# Altium footprint library mh.PcbLib: 25 footprints (part 1 of 2)
Each footprint in its own frame and in the unit in brackets; x right, y up, seen from the top. Pads: shape width x height; smd on the part's side, far side on the other; paste and mask are expansions set on the pad; w line width, h text height; cw(c..) or ccw(c..) is an arc to the next point about the centre after c.
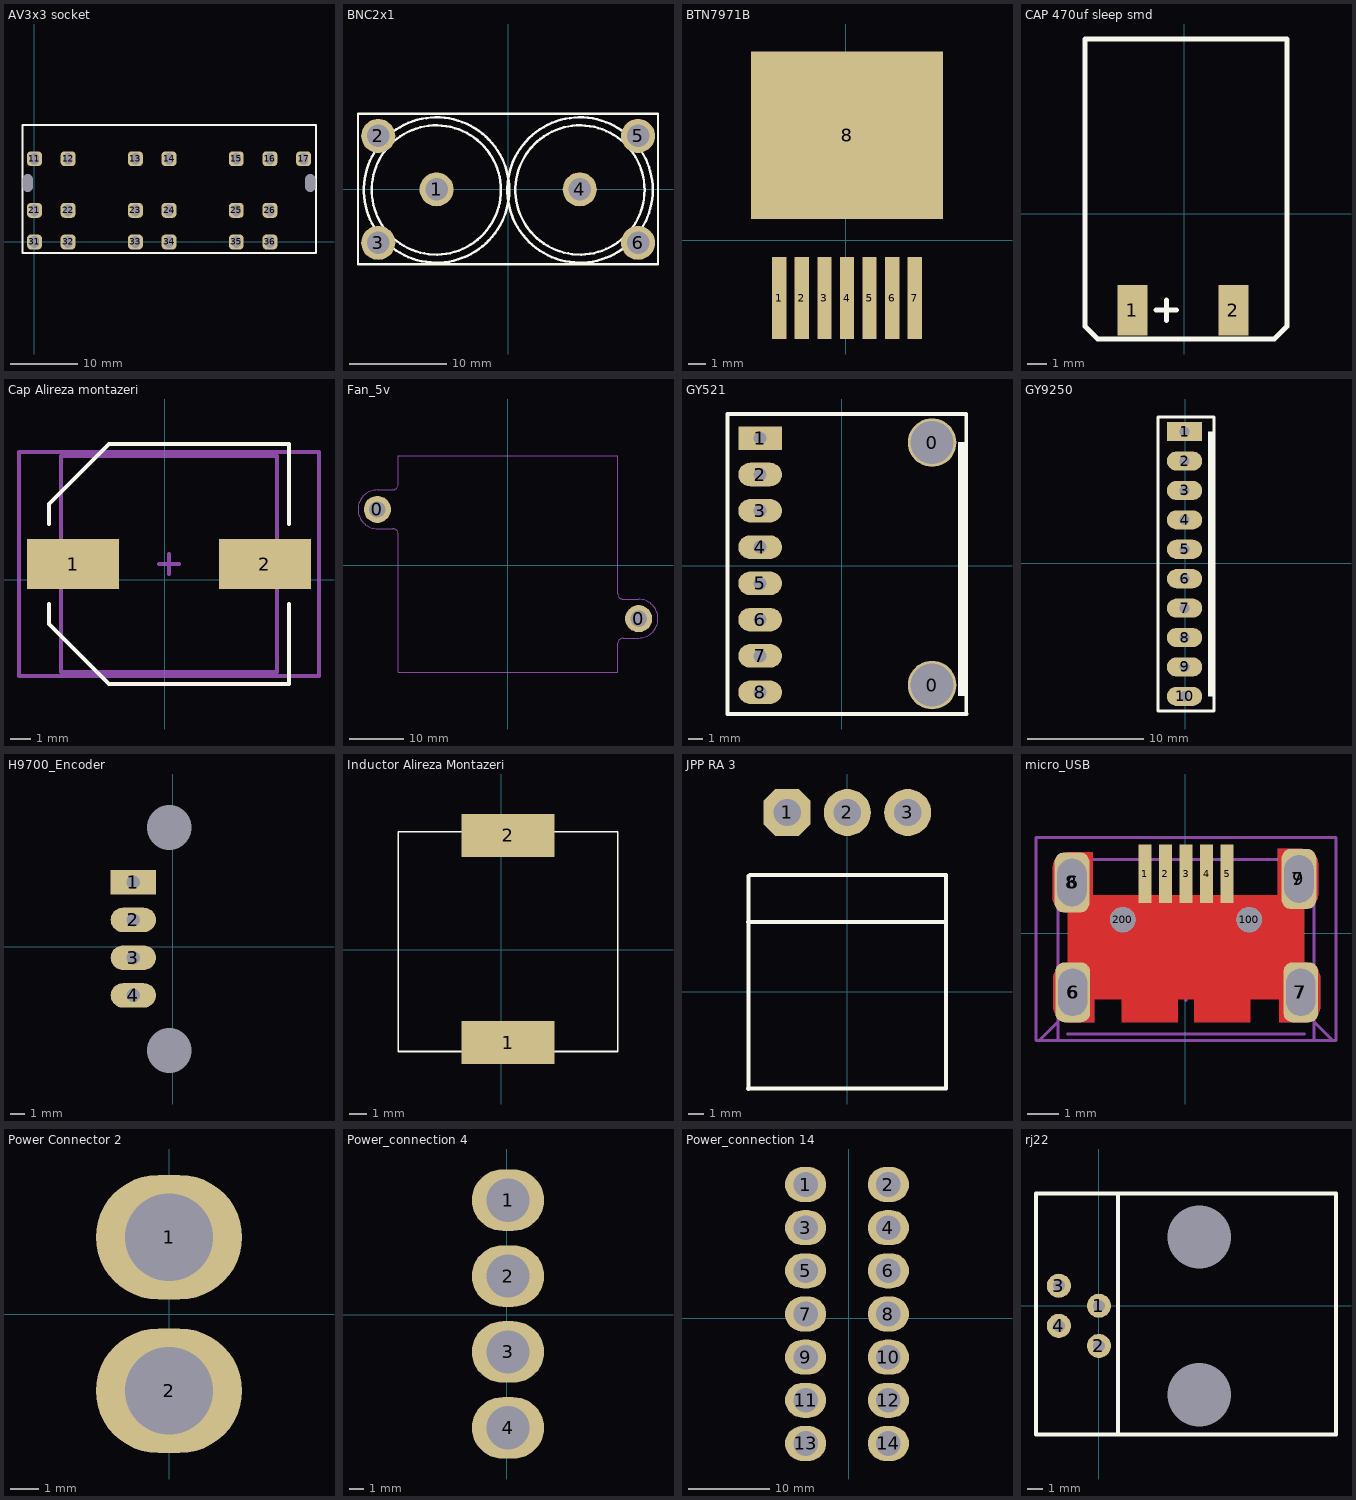
[diagram p0: the footprints below, top view; thin cyan lines are the x and y axes]

## AV3x3 socket [mm]
pads (21):
  round 0 hole 1.5 slot 2.6 at 90 deg: 0(-1,8.763) 0(40.992,8.763)
  rrect50% 2.2x2.2 hole 1.3 slot 1.7 at 90 deg: 11(0,12.38) 12(5,12.38) 13(15,12.38) 14(20,12.38) 15(30,12.38) 16(35,12.38) 17(40,12.38) 21(0,4.7) 22(5,4.7) 23(15,4.7) 24(20,4.7) 25(30,4.7) 26(35,4.7) 31(0,0) 32(5,0) 33(15,0) 34(20,0) 35(30,0) 36(35,0)
Top Overlay:
  lines w0.254: -1.778,-1.626 -1.778,17.374 41.859,17.374 41.859,-1.626 -1.778,-1.626

## BNC2x1 [mm]
pads (6):
  round 3.5 hole 2.3: 1(-7.386,-0.037) 2(-13.386,5.463) 3(-13.386,-5.537) 4(7.343,-0.037) 5(13.343,5.463) 6(13.343,-5.537)
Top Overlay:
  circle w0.254: c-7.391,-0.102 r7.479
  circle w0.254: c7.366,-0.102 r7.479
  circle w0.254: c-7.417,-0.102 r6.646
  circle w0.254: c7.366,-0.102 r6.646
  lines w0.254: -15.469,-7.722 -15.469,7.722 15.392,7.722 15.392,-7.722 -15.469,-7.722

## BTN7971B [mm]
pads (8):
  rect 0.8x4.6 smd: 1(-3.734,-3.251) 2(-2.464,-3.251) 3(-1.194,-3.251) 4(0.076,-3.251) 5(1.346,-3.251) 6(2.616,-3.251) 7(3.886,-3.251)
  rect 10.8x9.4 smd: 8(0.076,5.899)

## CAP 470uf sleep smd [mil]
pads (2):
  rect 60x100 smd: 1(-103,-191) 2(97,-191)
Top Overlay:
  lines w10: -56,-191 -16,-191 ; -36,-211 -36,-171 ; -197,-223 -197,346 203,346 203,-223 178,-248 -172,-248 -197,-223

## Cap Alireza montazeri [mm]
pads (2):
  rect 4.6x2.5 smd: 1(-4.592,0.797) 2(5.008,0.797)
Top Overlay:
  lines w0.2: -5.792,-1.203 -5.792,-2.203 -2.792,-5.203 6.208,-5.203 6.208,-1.203 ; -5.792,2.797 -5.792,3.797 -2.792,6.797 6.208,6.797 6.208,2.797
Mechanical 13:
  lines w0.2: -5.192,-4.603 5.608,-4.603 5.608,6.197 -5.192,6.197 -5.192,-4.603
Mechanical 15:
  lines w0.2: -0.292,0.797 0.708,0.797 ; 0.208,0.297 0.208,1.297 ; -7.292,-4.803 -7.292,6.397 7.708,6.397 7.708,-4.803 -7.292,-4.803
3D body: height 1.5, standoff 0.1, extent -5.192,-4.603 5.608,6.197
3D body: height 6.9, standoff 1.4, extent -5,-4.442 5.459,6.037

## Fan_5v [mm]
height 10
pads (2):
  round 5 hole 3: 0(-24.003,10.338) 0(24.155,-9.804)
Mechanical 1:
  circle w0.178: c24.148,-9.803 r1.6
  circle w0.178: c-24.002,10.347 r1.6
  lines w0.178: -24.002,6.772 cw(c-24.002,10.347) -24.002,13.922 -21.177,13.922 ccw(c-21.177,14.922) -20.177,14.922 -20.177,20.272 20.323,20.272 20.323,-5.228 ccw(c21.323,-5.228) 21.323,-6.228 24.148,-6.228 cw(c24.148,-9.803) 24.148,-13.378 21.323,-13.378 ccw(c21.323,-14.378) 20.323,-14.378 20.323,-19.728 -20.177,-19.728 -20.177,5.772 ccw(c-21.177,5.772) -21.177,6.772 -24.002,6.772

## GY521 [mil]
pads (10):
  round 133.86 hole 118.11: 0(248.99,-329.26) 0(248.99,339.03)
  rect 120x65 hole 35.43: 1(-225,351)
  oval 120x65 hole 35.43: 2(-225,251) 3(-225,151) 4(-225,51) 5(-225,-49) 6(-225,-149) 7(-225,-249) 8(-225,-349)
Top Overlay:
  circle w10: c-225,351 r25
  circle w10: c-225,251 r25
  circle w10: c-225,151 r25
  circle w10: c-225,51 r25
  circle w10: c-225,-49 r25
  circle w10: c-225,-149 r25
  circle w10: c-225,-249 r25
  circle w10: c-225,-349 r25
  rectangle: 320,-360 340,340
  lines w10: -315,414 -315,-409 344,-409 ; -315,417.77 343.48,417.77 343.48,-409
3D body: height 157.48, standoff 78.74, extent -312,-413 339,417

## GY9250 [mil]
pads (10):
  rect 120x65 hole 35.43: 1(-3,447)
  oval 120x65 hole 35.43: 2(-3,347) 3(-3,247) 4(-3,147) 5(-3,47) 6(-3,-53) 7(-3,-153) 8(-3,-253) 9(-3,-353) 10(-3,-453)
Top Overlay:
  circle w10: c-3,347 r25
  circle w10: c-3,247 r25
  circle w10: c-3,147 r25
  circle w10: c-3,47 r25
  circle w10: c-3,-53 r25
  circle w10: c-3,-153 r25
  circle w10: c-3,-253 r25
  circle w10: c-3,-353 r25
  circle w10: c-3,-453 r25
  circle w10: c-3,447 r25
  rectangle: 77,-453 97,447
  lines w10: -93,-503 97,-503 97,497 -93,497 -93,-503

## H9700_Encoder [mil]
pads (6):
  round 0 hole 118.11: 0(-10,-275) 0(-10,316)
  rect 120x65 hole 35.43: 1(-105,171)
  oval 120x65 hole 35.43: 2(-105,71) 3(-105,-29) 4(-105,-129)
Bottom Overlay:
  circle w10: c-10.5,-275 r59.05
  circle w10: c-10.5,316 r59.05
  lines w10: -223,-377 202,-377 ; -223,-372 -223,416 ; -223,418 202,418 ; 202,-376 202,412
  lines w30: -214,-181 -100,-181 ; -212,222 -98,222 10,222 ; 11,-181 190,-181 ; 13,222 192,222 ; -100,-181 8,-181 8,222 -100,222 -100,-181

## Inductor Alireza Montazeri [mm]
pads (2):
  rect 5.2x2.4 smd: 1(0.374,-5.205) 2(0.374,6.395)
Top Overlay:
  lines w0.1: -5.776,-5.705 -5.776,6.595 6.524,6.595 6.524,-5.705 -5.776,-5.705
3D body "User Library-WE-DD-L.STEP": height 6.9, standoff 0.2, extent -6.126,-5.756 6.375,6.744

## JPP RA 3 [mil]
pads (3):
  oct 120x120 hole 70: 1(-154,458)
  round 120 hole 70: 2(0,458) 3(154,458)
Top Overlay:
  lines w10: -254,-247 251,-247 ; -254,178 252,178 ; -253,-248 -253,296 ; -249,298 252,298 ; 252,-247 252,296

## micro_USB [mm]
pads (15):
  rect 0.4x1.85 smd: 1(-1.276,1.879) 2(-0.626,1.879) 3(0.024,1.879) 4(0.674,1.879) 5(1.324,1.879)
  rrect52% 1.1x1.9 hole 0.925 slot 1.5 at 90 deg paste+0: 6(-3.564,-1.871) 7(3.661,-1.871) 8(-3.587,1.606) 9(3.6,1.718)
  rrect52% 1.1x1.9 on Top Paste: 6(-3.549,1.606) 6(-3.526,-1.871) 7(3.563,1.718) 7(3.624,-1.871)
  round 0.8 hole 0.8: 100(2.024,0.429) 200(-1.976,0.429)
Top Layer:
  rectangle: 0.273,-2.821 2.073,-0.921
  rectangle: -2.026,-2.821 -0.226,-0.921
  region: 2.924,0.768 3.713,0.768 3.807,0.777 3.894,0.803 3.947,0.827 3.993,0.856 4.033,0.886 4.078,0.927 4.109,0.965 4.135,1.002 4.16,1.045 4.173,1.078 4.189,1.118 4.201,1.168 4.209,1.213 4.213,1.268 4.213,2.168 4.209,2.221 4.202,2.266 4.19,2.317 4.174,2.359 4.154,2.401 4.13,2.442 4.102,2.479 4.073,2.515 4.034,2.549 3.996,2.578 3.952,2.606 3.91,2.626 3.867,2.642 3.814,2.657 3.761,2.664 3.713,2.668 2.924,2.668
  region: -2.926,2.556 -3.699,2.556 -3.793,2.547 -3.88,2.521 -3.933,2.497 -3.979,2.468 -4.019,2.438 -4.064,2.397 -4.095,2.359 -4.121,2.322 -4.146,2.279 -4.159,2.246 -4.175,2.206 -4.187,2.156 -4.195,2.111 -4.199,2.056 -4.199,1.156 -4.195,1.103 -4.188,1.058 -4.176,1.007 -4.16,0.965 -4.14,0.923 -4.116,0.882 -4.088,0.845 -4.059,0.809 -4.02,0.775 -3.982,0.746 -3.938,0.718 -3.896,0.698 -3.853,0.682 -3.8,0.667 -3.747,0.66 -3.699,0.656 -2.926,0.656
  region: 2.974,-2.821 3.774,-2.821 3.868,-2.812 3.955,-2.786 4.008,-2.762 4.054,-2.733 4.094,-2.703 4.139,-2.662 4.17,-2.624 4.196,-2.587 4.221,-2.544 4.234,-2.511 4.25,-2.471 4.262,-2.421 4.27,-2.376 4.274,-2.321 4.274,-1.421 4.27,-1.368 4.263,-1.323 4.251,-1.272 4.235,-1.23 4.215,-1.188 4.191,-1.147 4.163,-1.11 4.134,-1.074 4.095,-1.04 4.057,-1.011 4.013,-0.983 3.971,-0.963 3.928,-0.947 3.875,-0.932 3.822,-0.925 3.774,-0.921 2.974,-0.921
  region: -2.876,-0.921 -3.676,-0.921 -3.77,-0.93 -3.857,-0.956 -3.91,-0.98 -3.956,-1.009 -3.996,-1.039 -4.041,-1.08 -4.072,-1.118 -4.098,-1.155 -4.123,-1.198 -4.136,-1.231 -4.152,-1.271 -4.164,-1.321 -4.172,-1.366 -4.176,-1.421 -4.176,-2.321 -4.172,-2.374 -4.165,-2.419 -4.153,-2.47 -4.137,-2.512 -4.117,-2.554 -4.093,-2.595 -4.065,-2.632 -4.036,-2.668 -3.997,-2.702 -3.959,-2.731 -3.915,-2.759 -3.873,-2.779 -3.83,-2.795 -3.777,-2.81 -3.724,-2.817 -3.676,-2.821 -2.876,-2.821
  pour cut-out: -3.726,1.204 3.774,1.204 3.774,-2.096 -3.726,-2.096
Bottom Layer:
  region: 2.924,0.768 3.713,0.768 3.807,0.777 3.894,0.803 3.947,0.827 3.993,0.856 4.033,0.886 4.078,0.927 4.109,0.965 4.135,1.002 4.16,1.045 4.173,1.078 4.189,1.118 4.201,1.168 4.209,1.213 4.213,1.268 4.213,2.168 4.209,2.221 4.202,2.266 4.19,2.317 4.174,2.359 4.154,2.401 4.13,2.442 4.102,2.479 4.073,2.515 4.034,2.549 3.996,2.578 3.952,2.606 3.91,2.626 3.867,2.642 3.814,2.657 3.761,2.664 3.713,2.668 2.924,2.668
  region: -2.976,2.556 -3.699,2.556 -3.793,2.547 -3.88,2.521 -3.933,2.497 -3.979,2.468 -4.019,2.438 -4.064,2.397 -4.095,2.359 -4.121,2.322 -4.146,2.279 -4.159,2.246 -4.175,2.206 -4.187,2.156 -4.195,2.111 -4.199,2.056 -4.199,1.156 -4.195,1.103 -4.188,1.058 -4.176,1.007 -4.16,0.965 -4.14,0.923 -4.116,0.882 -4.088,0.845 -4.059,0.809 -4.02,0.775 -3.982,0.746 -3.938,0.718 -3.896,0.698 -3.853,0.682 -3.8,0.667 -3.747,0.66 -3.699,0.656 -2.976,0.656
  region: -2.876,-0.921 -3.676,-0.921 -3.77,-0.93 -3.857,-0.956 -3.91,-0.98 -3.956,-1.009 -3.996,-1.039 -4.041,-1.08 -4.072,-1.118 -4.098,-1.155 -4.123,-1.198 -4.136,-1.231 -4.152,-1.271 -4.164,-1.321 -4.172,-1.366 -4.176,-1.421 -4.176,-2.321 -4.172,-2.374 -4.165,-2.419 -4.153,-2.47 -4.137,-2.512 -4.117,-2.554 -4.093,-2.595 -4.065,-2.632 -4.036,-2.668 -3.997,-2.702 -3.959,-2.731 -3.915,-2.759 -3.873,-2.779 -3.83,-2.795 -3.777,-2.81 -3.724,-2.817 -3.676,-2.821 -2.876,-2.821
  region: 2.974,-2.821 3.774,-2.821 3.868,-2.812 3.955,-2.786 4.008,-2.762 4.054,-2.733 4.094,-2.703 4.139,-2.662 4.17,-2.624 4.196,-2.587 4.221,-2.544 4.234,-2.511 4.25,-2.471 4.262,-2.421 4.27,-2.376 4.274,-2.321 4.274,-1.421 4.27,-1.368 4.263,-1.323 4.251,-1.272 4.235,-1.23 4.215,-1.188 4.191,-1.147 4.163,-1.11 4.134,-1.074 4.095,-1.04 4.057,-1.011 4.013,-0.983 3.971,-0.963 3.928,-0.947 3.875,-0.932 3.822,-0.925 3.774,-0.921 2.974,-0.921
Mechanical 1:
  lines w0.1: -3.726,-3.196 3.774,-3.196
Mechanical 13:
  lines w0.1: -4.026,-2.796 -4.626,-3.396 -4.026,-3.396 ; 4.074,-2.796 4.674,-3.396 4.074,-3.396 ; -4.026,-3.396 4.074,-3.396 ; -4.026,-3.396 -4.026,2.329 4.074,2.329 4.074,-3.396
Mechanical 15:
  lines w0.1: -0.226,-1.871 0.274,-1.871 ; 0.024,-2.121 0.024,-1.621 ; -4.726,-3.396 4.774,-3.396 4.774,3.029 -4.726,3.029 -4.726,-3.396
3D body "ZX62D-AB-5P8.stp": height 2.78, standoff -0.61, extent -4.301,-3.42 4.349,2.479

## Power Connector 2 [mil]
pads (2):
  oval 200x170 hole 120: 1(0,105) 2(0,-105)

## Power_connection 4 [mil]
pads (4):
  oval 200x170 hole 120: 1(4,317) 2(4,107) 3(4,-103) 4(4,-313)

## Power_connection 14 [mil]
pads (14):
  oval 200x170 hole 120: 1(-209,651) 2(194,651) 3(-209,441) 4(194,441) 5(-209,231) 6(194,231) 7(-209,21) 8(194,21) 9(-209,-189) 10(194,-189) 11(-209,-399) 12(194,-399) 13(-209,-609) 14(194,-609)

## rj22 [mil]
pads (6):
  round 60 hole 30: 1(0,0) 2(0,-100) 3(-100,50) 4(-100,-50)
  round 0 hole 157.48: ""(250,-221.85) ""(250,171.85)
Top Overlay:
  lines w10: 47,-317 47,280 ; 590.55,279 590.55,-321 -157,-321 -157,280 591,280